# EAGLE library part CC2564MODA (library electronic-labs)
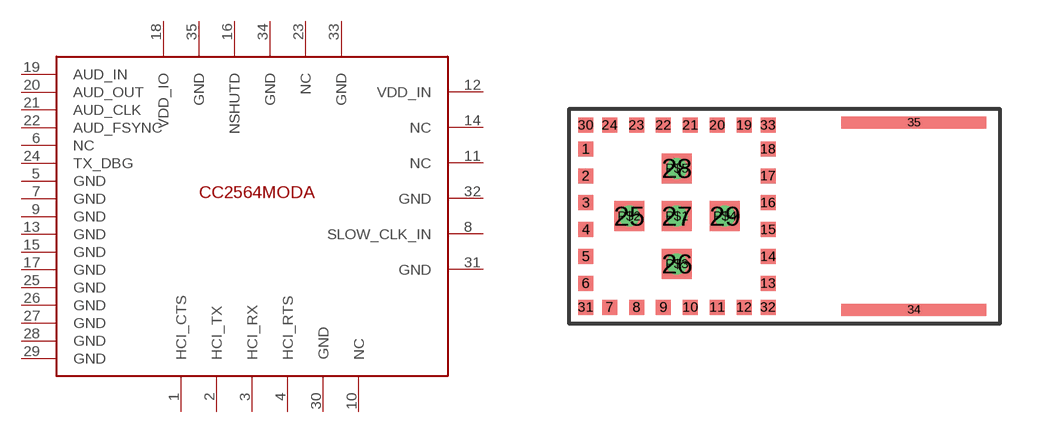
[diagram p19: symbol with the pads of CC2564MODA; footprint CC2564MODA]

Designator prefix U

## CC2564MODA  [CC2564MODA]
1  HCI_CTS
2  HCI_TX
3  HCI_RX
4  HCI_RTS
5  GND  pwr
6  NC  nc
7  GND  pwr
8  SLOW_CLK_IN
9  GND  pwr
10  NC  nc
11  NC  nc
12  VDD_IN  pwr
13  GND  pwr
14  NC  nc
15  GND  pwr
16  NSHUTD
17  GND  pwr
18  VDD_IO  pwr
19  AUD_IN
20  AUD_OUT
21  AUD_CLK
22  AUD_FSYNC
23  NC  nc
24  TX_DBG
25  GND  pwr
26  GND  pwr
27  GND  pwr
28  GND  pwr
29  GND  pwr
30  GND  pwr
31  GND  pwr
32  GND  pwr
33  GND  pwr
34  GND  pwr
35  GND  pwr

## Footprint CC2564MODA (pad centres in mm)
smd 0.5 x 0.5: 1 -3.05,2.25; 2 -3.05,1.35; 3 -3.05,0.45; 4 -3.05,-0.45; 5 -3.05,-1.35; 6 -3.05,-2.25; 7 -2.25,-3.05; 8 -1.35,-3.05; 9 -0.45,-3.05; 10 0.45,-3.05; 11 1.35,-3.05; 12 2.25,-3.05; 13 3.05,-2.25; 14 3.05,-1.35; 15 3.05,-0.45; 16 3.05,0.45; 17 3.05,1.35; 18 3.05,2.25; 19 2.25,3.05; 20 1.35,3.05; 21 0.45,3.05; 22 -0.45,3.05; 23 -1.35,3.05; 24 -2.25,3.05; 30 -3.05,3.05; 31 -3.05,-3.05; 32 3.05,-3.05; 33 3.05,3.05
smd 1 x 1: 25 -1.6,0; 26 0,-1.6; 27 0,0; 28 0,1.6; 29 1.6,0
smd 4.85 x 0.4: 34 7.925,-3.135; 35 7.925,3.135
drill 0.2: P$1 0,0; P$2 -1.6,0; P$3 0,-1.6; P$4 1.6,0; P$5 0,1.6